# Altium schematic symbol library SCH - MCU - RENESAS - RENESAS R7FS5D57XXXXXXFB 144LQFP.SchLib: 1 symbol
Pins are listed as number, name and electrical type; pins without a type are passive.

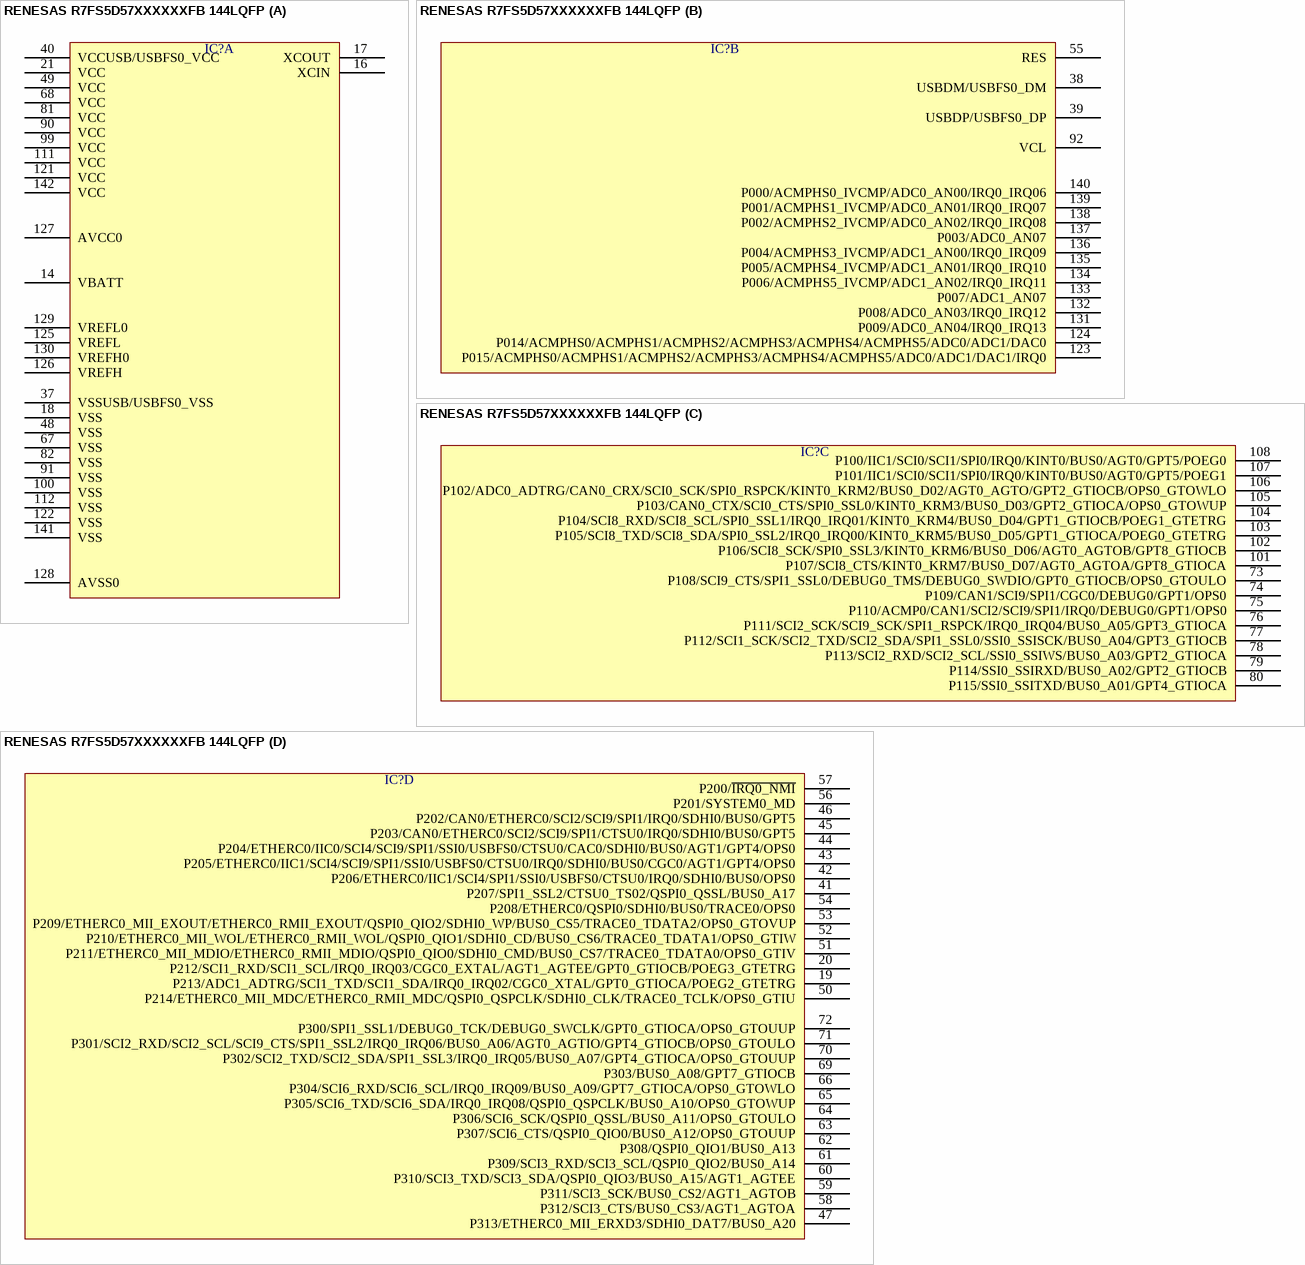
[diagram p0: symbol RENESAS R7FS5D57XXXXXXFB 144LQFP]

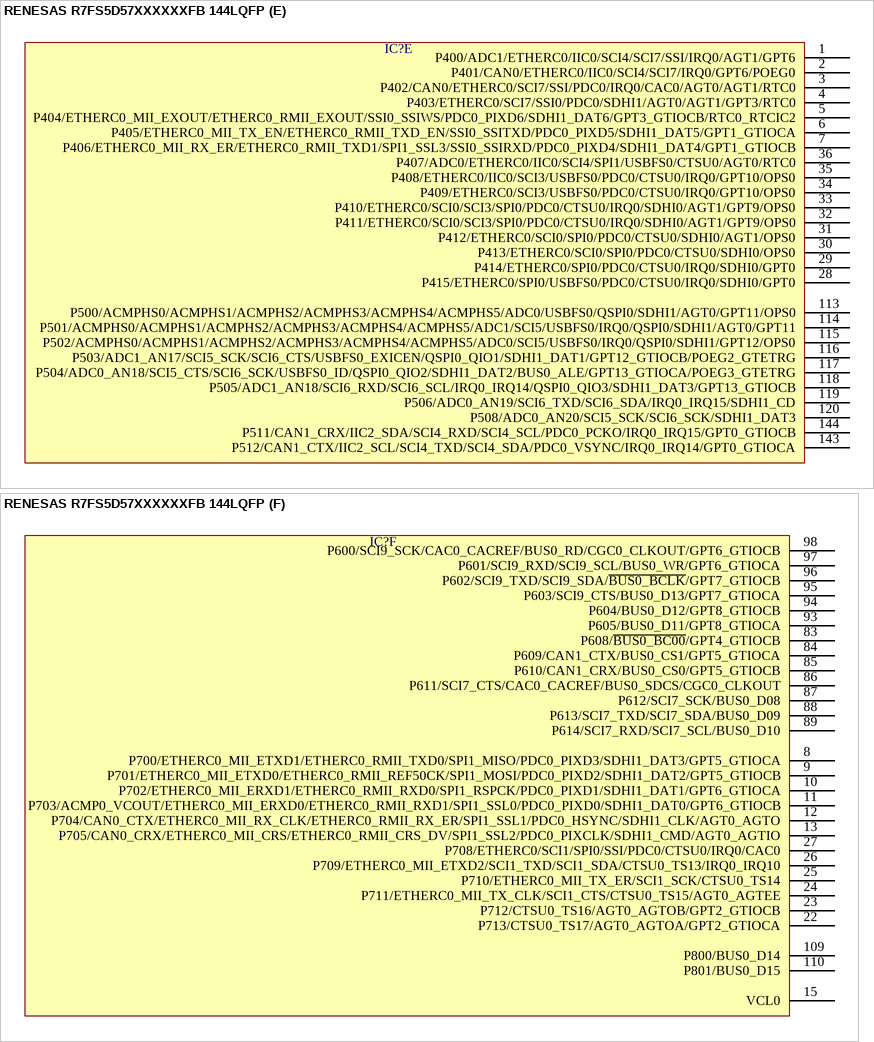
[diagram p1: symbol RENESAS R7FS5D57XXXXXXFB 144LQFP]

## RENESAS R7FS5D57XXXXXXFB 144LQFP
designator IC?  (value not drawn)
part A pins: 14 VBATT, 16 XCIN, 17 XCOUT, 18 VSS, 21 VCC, 37 VSSUSB/USBFS0_VSS, 40 VCCUSB/USBFS0_VCC, 48 VSS, 49 VCC, 67 VSS, 68 VCC, 81 VCC, 82 VSS, 90 VCC, 91 VSS, 99 VCC, 100 VSS, 111 VCC, 112 VSS, 121 VCC, 122 VSS, 125 VREFL, 126 VREFH, 127 AVCC0, 128 AVSS0, 129 VREFL0, 130 VREFH0, 141 VSS, 142 VCC
part B pins: 38 USBDM/USBFS0_DM, 39 USBDP/USBFS0_DP, 55 RES, 92 VCL, 123 P015/ACMPHS0/ACMPHS1/ACMPHS2/ACMPHS3/ACMPHS4/ACMPHS5/ADC0/ADC1/DAC1/IRQ0, 124 P014/ACMPHS0/ACMPHS1/ACMPHS2/ACMPHS3/ACMPHS4/ACMPHS5/ADC0/ADC1/DAC0, 131 P009/ADC0_AN04/IRQ0_IRQ13, 132 P008/ADC0_AN03/IRQ0_IRQ12, 133 P007/ADC1_AN07, 134 P006/ACMPHS5_IVCMP/ADC1_AN02/IRQ0_IRQ11, 135 P005/ACMPHS4_IVCMP/ADC1_AN01/IRQ0_IRQ10, 136 P004/ACMPHS3_IVCMP/ADC1_AN00/IRQ0_IRQ09, 137 P003/ADC0_AN07, 138 P002/ACMPHS2_IVCMP/ADC0_AN02/IRQ0_IRQ08, 139 P001/ACMPHS1_IVCMP/ADC0_AN01/IRQ0_IRQ07, 140 P000/ACMPHS0_IVCMP/ADC0_AN00/IRQ0_IRQ06
part C pins: 73 P108/SCI9_CTS/SPI1_SSL0/DEBUG0_TMS/DEBUG0_SWDIO/GPT0_GTIOCB/OPS0_GTOULO, 74 P109/CAN1/SCI9/SPI1/CGC0/DEBUG0/GPT1/OPS0, 75 P110/ACMP0/CAN1/SCI2/SCI9/SPI1/IRQ0/DEBUG0/GPT1/OPS0, 76 P111/SCI2_SCK/SCI9_SCK/SPI1_RSPCK/IRQ0_IRQ04/BUS0_A05/GPT3_GTIOCA, 77 P112/SCI1_SCK/SCI2_TXD/SCI2_SDA/SPI1_SSL0/SSI0_SSISCK/BUS0_A04/GPT3_GTIOCB, 78 P113/SCI2_RXD/SCI2_SCL/SSI0_SSIWS/BUS0_A03/GPT2_GTIOCA, 79 P114/SSI0_SSIRXD/BUS0_A02/GPT2_GTIOCB, 80 P115/SSI0_SSITXD/BUS0_A01/GPT4_GTIOCA, 101 P107/SCI8_CTS/KINT0_KRM7/BUS0_D07/AGT0_AGTOA/GPT8_GTIOCA, 102 P106/SCI8_SCK/SPI0_SSL3/KINT0_KRM6/BUS0_D06/AGT0_AGTOB/GPT8_GTIOCB, 103 P105/SCI8_TXD/SCI8_SDA/SPI0_SSL2/IRQ0_IRQ00/KINT0_KRM5/BUS0_D05/GPT1_GTIOCA/POEG0_GTETRG, 104 P104/SCI8_RXD/SCI8_SCL/SPI0_SSL1/IRQ0_IRQ01/KINT0_KRM4/BUS0_D04/GPT1_GTIOCB/POEG1_GTETRG, 105 P103/CAN0_CTX/SCI0_CTS/SPI0_SSL0/KINT0_KRM3/BUS0_D03/GPT2_GTIOCA/OPS0_GTOWUP, 106 P102/ADC0_ADTRG/CAN0_CRX/SCI0_SCK/SPI0_RSPCK/KINT0_KRM2/BUS0_D02/AGT0_AGTO/GPT2_GTIOCB/OPS0_GTOWLO, 107 P101/IIC1/SCI0/SCI1/SPI0/IRQ0/KINT0/BUS0/AGT0/GPT5/POEG1, 108 P100/IIC1/SCI0/SCI1/SPI0/IRQ0/KINT0/BUS0/AGT0/GPT5/POEG0
part D pins: 19 P213/ADC1_ADTRG/SCI1_TXD/SCI1_SDA/IRQ0_IRQ02/CGC0_XTAL/GPT0_GTIOCA/POEG2_GTETRG, 20 P212/SCI1_RXD/SCI1_SCL/IRQ0_IRQ03/CGC0_EXTAL/AGT1_AGTEE/GPT0_GTIOCB/POEG3_GTETRG, 41 P207/SPI1_SSL2/CTSU0_TS02/QSPI0_QSSL/BUS0_A17, 42 P206/ETHERC0/IIC1/SCI4/SPI1/SSI0/USBFS0/CTSU0/IRQ0/SDHI0/BUS0/OPS0, 43 P205/ETHERC0/IIC1/SCI4/SCI9/SPI1/SSI0/USBFS0/CTSU0/IRQ0/SDHI0/BUS0/CGC0/AGT1/GPT4/OPS0, 44 P204/ETHERC0/IIC0/SCI4/SCI9/SPI1/SSI0/USBFS0/CTSU0/CAC0/SDHI0/BUS0/AGT1/GPT4/OPS0, 45 P203/CAN0/ETHERC0/SCI2/SCI9/SPI1/CTSU0/IRQ0/SDHI0/BUS0/GPT5, 46 P202/CAN0/ETHERC0/SCI2/SCI9/SPI1/IRQ0/SDHI0/BUS0/GPT5, 47 P313/ETHERC0_MII_ERXD3/SDHI0_DAT7/BUS0_A20, 50 P214/ETHERC0_MII_MDC/ETHERC0_RMII_MDC/QSPI0_QSPCLK/SDHI0_CLK/TRACE0_TCLK/OPS0_GTIU, 51 P211/ETHERC0_MII_MDIO/ETHERC0_RMII_MDIO/QSPI0_QIO0/SDHI0_CMD/BUS0_CS7/TRACE0_TDATA0/OPS0_GTIV, 52 P210/ETHERC0_MII_WOL/ETHERC0_RMII_WOL/QSPI0_QIO1/SDHI0_CD/BUS0_CS6/TRACE0_TDATA1/OPS0_GTIW, 53 P209/ETHERC0_MII_EXOUT/ETHERC0_RMII_EXOUT/QSPI0_QIO2/SDHI0_WP/BUS0_CS5/TRACE0_TDATA2/OPS0_GTOVUP, 54 P208/ETHERC0/QSPI0/SDHI0/BUS0/TRACE0/OPS0, 56 P201/SYSTEM0_MD, 57 P200/~{IRQ0_NMI}, 58 P312/SCI3_CTS/BUS0_CS3/AGT1_AGTOA, 59 P311/SCI3_SCK/BUS0_CS2/AGT1_AGTOB, 60 P310/SCI3_TXD/SCI3_SDA/QSPI0_QIO3/BUS0_A15/AGT1_AGTEE, 61 P309/SCI3_RXD/SCI3_SCL/QSPI0_QIO2/BUS0_A14, 62 P308/QSPI0_QIO1/BUS0_A13, 63 P307/SCI6_CTS/QSPI0_QIO0/BUS0_A12/OPS0_GTOUUP, 64 P306/SCI6_SCK/QSPI0_QSSL/BUS0_A11/OPS0_GTOULO, 65 P305/SCI6_TXD/SCI6_SDA/IRQ0_IRQ08/QSPI0_QSPCLK/BUS0_A10/OPS0_GTOWUP, 66 P304/SCI6_RXD/SCI6_SCL/IRQ0_IRQ09/BUS0_A09/GPT7_GTIOCA/OPS0_GTOWLO, 69 P303/BUS0_A08/GPT7_GTIOCB, 70 P302/SCI2_TXD/SCI2_SDA/SPI1_SSL3/IRQ0_IRQ05/BUS0_A07/GPT4_GTIOCA/OPS0_GTOUUP, 71 P301/SCI2_RXD/SCI2_SCL/SCI9_CTS/SPI1_SSL2/IRQ0_IRQ06/BUS0_A06/AGT0_AGTIO/GPT4_GTIOCB/OPS0_GTOULO, 72 P300/SPI1_SSL1/DEBUG0_TCK/DEBUG0_SWCLK/GPT0_GTIOCA/OPS0_GTOUUP
part E pins: 1 P400/ADC1/ETHERC0/IIC0/SCI4/SCI7/SSI/IRQ0/AGT1/GPT6, 2 P401/CAN0/ETHERC0/IIC0/SCI4/SCI7/IRQ0/GPT6/POEG0, 3 P402/CAN0/ETHERC0/SCI7/SSI/PDC0/IRQ0/CAC0/AGT0/AGT1/RTC0, 4 P403/ETHERC0/SCI7/SSI0/PDC0/SDHI1/AGT0/AGT1/GPT3/RTC0, 5 P404/ETHERC0_MII_EXOUT/ETHERC0_RMII_EXOUT/SSI0_SSIWS/PDC0_PIXD6/SDHI1_DAT6/GPT3_GTIOCB/RTC0_RTCIC2, 6 P405/ETHERC0_MII_TX_EN/ETHERC0_RMII_TXD_EN/SSI0_SSITXD/PDC0_PIXD5/SDHI1_DAT5/GPT1_GTIOCA, 7 P406/ETHERC0_MII_RX_ER/ETHERC0_RMII_TXD1/SPI1_SSL3/SSI0_SSIRXD/PDC0_PIXD4/SDHI1_DAT4/GPT1_GTIOCB, 28 P415/ETHERC0/SPI0/USBFS0/PDC0/CTSU0/IRQ0/SDHI0/GPT0, 29 P414/ETHERC0/SPI0/PDC0/CTSU0/IRQ0/SDHI0/GPT0, 30 P413/ETHERC0/SCI0/SPI0/PDC0/CTSU0/SDHI0/OPS0, 31 P412/ETHERC0/SCI0/SPI0/PDC0/CTSU0/SDHI0/AGT1/OPS0, 32 P411/ETHERC0/SCI0/SCI3/SPI0/PDC0/CTSU0/IRQ0/SDHI0/AGT1/GPT9/OPS0, 33 P410/ETHERC0/SCI0/SCI3/SPI0/PDC0/CTSU0/IRQ0/SDHI0/AGT1/GPT9/OPS0, 34 P409/ETHERC0/SCI3/USBFS0/PDC0/CTSU0/IRQ0/GPT10/OPS0, 35 P408/ETHERC0/IIC0/SCI3/USBFS0/PDC0/CTSU0/IRQ0/GPT10/OPS0, 36 P407/ADC0/ETHERC0/IIC0/SCI4/SPI1/USBFS0/CTSU0/AGT0/RTC0, 113 P500/ACMPHS0/ACMPHS1/ACMPHS2/ACMPHS3/ACMPHS4/ACMPHS5/ADC0/USBFS0/QSPI0/SDHI1/AGT0/GPT11/OPS0, 114 P501/ACMPHS0/ACMPHS1/ACMPHS2/ACMPHS3/ACMPHS4/ACMPHS5/ADC1/SCI5/USBFS0/IRQ0/QSPI0/SDHI1/AGT0/GPT11, 115 P502/ACMPHS0/ACMPHS1/ACMPHS2/ACMPHS3/ACMPHS4/ACMPHS5/ADC0/SCI5/USBFS0/IRQ0/QSPI0/SDHI1/GPT12/OPS0, 116 P503/ADC1_AN17/SCI5_SCK/SCI6_CTS/USBFS0_EXICEN/QSPI0_QIO1/SDHI1_DAT1/GPT12_GTIOCB/POEG2_GTETRG, 117 P504/ADC0_AN18/SCI5_CTS/SCI6_SCK/USBFS0_ID/QSPI0_QIO2/SDHI1_DAT2/BUS0_ALE/GPT13_GTIOCA/POEG3_GTETRG, 118 P505/ADC1_AN18/SCI6_RXD/SCI6_SCL/IRQ0_IRQ14/QSPI0_QIO3/SDHI1_DAT3/GPT13_GTIOCB, 119 P506/ADC0_AN19/SCI6_TXD/SCI6_SDA/IRQ0_IRQ15/SDHI1_CD, 120 P508/ADC0_AN20/SCI5_SCK/SCI6_SCK/SDHI1_DAT3, 143 P512/CAN1_CTX/IIC2_SCL/SCI4_TXD/SCI4_SDA/PDC0_VSYNC/IRQ0_IRQ14/GPT0_GTIOCA, 144 P511/CAN1_CRX/IIC2_SDA/SCI4_RXD/SCI4_SCL/PDC0_PCKO/IRQ0_IRQ15/GPT0_GTIOCB
part F pins: 8 P700/ETHERC0_MII_ETXD1/ETHERC0_RMII_TXD0/SPI1_MISO/PDC0_PIXD3/SDHI1_DAT3/GPT5_GTIOCA, 9 P701/ETHERC0_MII_ETXD0/ETHERC0_RMII_REF50CK/SPI1_MOSI/PDC0_PIXD2/SDHI1_DAT2/GPT5_GTIOCB, 10 P702/ETHERC0_MII_ERXD1/ETHERC0_RMII_RXD0/SPI1_RSPCK/PDC0_PIXD1/SDHI1_DAT1/GPT6_GTIOCA, 11 P703/ACMP0_VCOUT/ETHERC0_MII_ERXD0/ETHERC0_RMII_RXD1/SPI1_SSL0/PDC0_PIXD0/SDHI1_DAT0/GPT6_GTIOCB, 12 P704/CAN0_CTX/ETHERC0_MII_RX_CLK/ETHERC0_RMII_RX_ER/SPI1_SSL1/PDC0_HSYNC/SDHI1_CLK/AGT0_AGTO, 13 P705/CAN0_CRX/ETHERC0_MII_CRS/ETHERC0_RMII_CRS_DV/SPI1_SSL2/PDC0_PIXCLK/SDHI1_CMD/AGT0_AGTIO, 15 VCL0, 22 P713/CTSU0_TS17/AGT0_AGTOA/GPT2_GTIOCA, 23 P712/CTSU0_TS16/AGT0_AGTOB/GPT2_GTIOCB, 24 P711/ETHERC0_MII_TX_CLK/SCI1_CTS/CTSU0_TS15/AGT0_AGTEE, 25 P710/ETHERC0_MII_TX_ER/SCI1_SCK/CTSU0_TS14, 26 P709/ETHERC0_MII_ETXD2/SCI1_TXD/SCI1_SDA/CTSU0_TS13/IRQ0_IRQ10, 27 P708/ETHERC0/SCI1/SPI0/SSI/PDC0/CTSU0/IRQ0/CAC0, 83 P608/~{BUS0_BC00}/GPT4_GTIOCB, 84 P609/CAN1_CTX/BUS0_CS1/GPT5_GTIOCA, 85 P610/CAN1_CRX/BUS0_CS0/GPT5_GTIOCB, 86 P611/SCI7_CTS/CAC0_CACREF/BUS0_SDCS/CGC0_CLKOUT, 87 P612/SCI7_SCK/BUS0_D08, 88 P613/SCI7_TXD/SCI7_SDA/BUS0_D09, 89 P614/SCI7_RXD/SCI7_SCL/BUS0_D10, 93 P605/BUS0_D11/GPT8_GTIOCA, 94 P604/BUS0_D12/GPT8_GTIOCB, 95 P603/SCI9_CTS/BUS0_D13/GPT7_GTIOCA, 96 P602/SCI9_TXD/SCI9_SDA/~{BUS0_BCLK}/GPT7_GTIOCB, 97 P601/SCI9_RXD/SCI9_SCL/BUS0_WR/GPT6_GTIOCA, 98 P600/SCI9_SCK/CAC0_CACREF/BUS0_RD/CGC0_CLKOUT/GPT6_GTIOCB, 109 P800/BUS0_D14, 110 P801/BUS0_D15